# EAGLE library part MHRJJ88NFRA (library eko-parts)
http://onecall.farnell.com/mh-connectors/mhrjj88nfra/socket-rj45-8p8c/dp/3938360
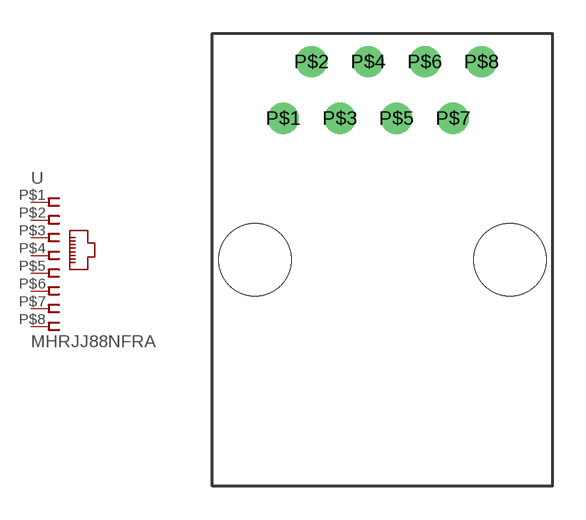
[diagram p3: symbol with the pads of MHRJJ8NFRA; footprint MHRJJ8NFRA]

Designator prefix -

## MHRJJ88NFRA  [MHRJJ8NFRA]
P$1  1  pas
P$2  2  pas
P$3  3  pas
P$4  4  pas
P$5  5  pas
P$6  6  pas
P$7  7  pas
P$8  8  pas

## Footprint MHRJJ8NFRA (pad centres in mm)
drill 0.9: P$1 -4.445,6.35; P$2 -3.175,8.89; P$3 -1.905,6.35; P$4 -0.635,8.89; P$5 0.635,6.35; P$6 1.905,8.89; P$7 3.175,6.35; P$8 4.445,8.89
hole 3.25 at -5.715,0
hole 3.25 at 5.715,0